# Altium footprint library Adams Altium Library.PcbLib: 102 footprints (part 3 of 7)
Each footprint in its own frame and in the unit in brackets; x right, y up, seen from the top. Pads: shape width x height; smd on the part's side, far side on the other; paste and mask are expansions set on the pad; w line width, h text height; cw(c..) or ccw(c..) is an arc to the next point about the centre after c.
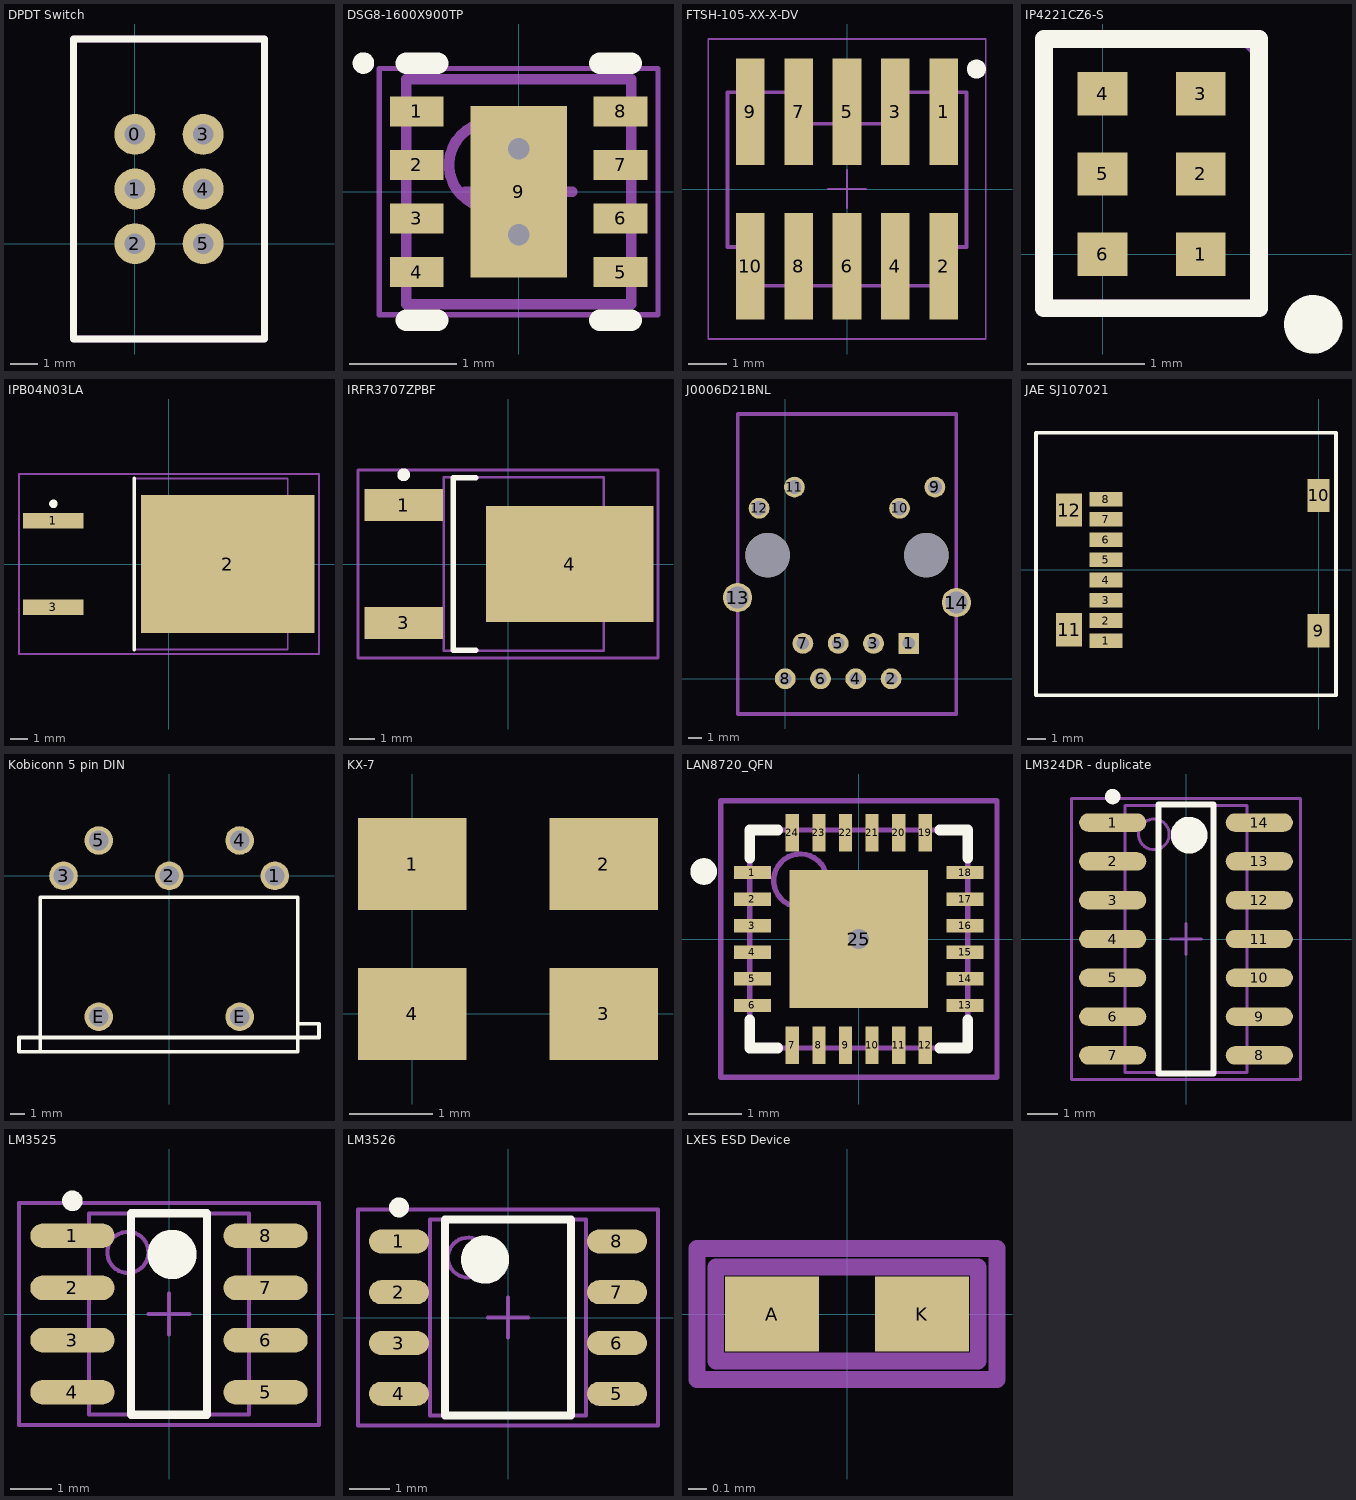
[diagram p2: the footprints below, top view; thin cyan lines are the x and y axes]

## DPDT Switch [mm] "MMS22R"
pads (6):
  round 1.5 hole 0.75: 0(0,4) 1(0,2) 2(0,0) 3(2.5,4) 4(2.5,2) 5(2.5,0)
Top Overlay:
  lines w0.254: -2.25,-3.5 -2.25,2 -2.25,7.5 4.75,7.5 4.75,7.163 4.75,1.944 4.75,-3.5 -2.25,-3.5
Mechanical 13:
  lines w0.254: -2.25,-3.5 4.75,-3.5 4.75,1.944 4.75,7.163 4.75,7.5 -2.25,7.5 -2.25,2 -2.25,-3.5

## DSG8-1600X900TP [mm] "SON, 8-Leads, Body 2x2mm, Pitch 0.5mm, Thermal Pad 1.6x0.9mm, TI Recommended"
height 0.8
pads (9):
  rect 0.5x0.28 smd paste-0.14 mask+0.07: 1(-0.95,0.75) 2(-0.95,0.25) 3(-0.95,-0.25) 4(-0.95,-0.75) 5(0.95,-0.75) 6(0.95,-0.25) 7(0.95,0.25) 8(0.95,0.75)
  rect 0.9x1.6 smd paste-0.45 mask+0.07: 9(0,0)
via 0,-0.4 diameter 0.5 hole 0.2
via 0,0.4 diameter 0.5 hole 0.2
Top Overlay:
  circle w0.1: c-1.45,1.2 r0.05
  lines w0.2: -1.05,-1.2 -0.755,-1.2 ; -1.05,1.2 -0.755,1.2 ; 0.755,-1.2 1.05,-1.2 ; 0.755,1.2 1.05,1.2
Top Paste:
  rectangle: 0.7,0.625 1.2,0.875
  rectangle: 0.7,0.125 1.2,0.375
  rectangle: 0.7,-0.375 1.2,-0.125
  rectangle: 0.7,-0.875 1.2,-0.625
  rectangle: -1.2,-0.875 -0.7,-0.625
  rectangle: -1.2,-0.375 -0.7,-0.125
  rectangle: -1.2,0.625 -0.7,0.875
  rectangle: -0.35,-0.65 0.35,0.65
  rectangle: -1.2,0.125 -0.7,0.375
Mechanical 13:
  circle w0.1: c-0.25,0.25 r0.4
  lines w0.1: -1.05,-1.05 -1.05,1.05 1.05,1.05 1.05,-1.05 -1.05,-1.05
Mechanical 15:
  lines w0.05: -1.3,-1.15 -1.3,1.15 1.3,1.15 1.3,-1.15 -1.3,-1.15
  lines w0.1: -0.5,0 0.5,0 ; 0,-0.5 0,0.5
3D body: height 0.8, standoff 0, extent -1.05,-1.05 1.05,1.05

## FTSH-105-XX-X-DV [mm] "1.27mm pitch, 10 pin, terminal strip; vertical, SMT"
height 5.97
pads (10):
  rect 0.75x2.8 smd mask+0: 1(2.54,2.03) 2(2.54,-2.03) 3(1.27,2.03) 4(1.27,-2.03) 5(0,2.03) 6(0,-2.03) 7(-1.27,2.03) 8(-1.27,-2.03) 9(-2.54,2.03) 10(-2.54,-2.03)
Top Overlay:
  circle w0.25: c3.4,3.15 r0.125
Mechanical 12:
  lines w0.001: -3.137,-1.524 -3.137,2.54 -1.079,2.54 -1.079,1.714 1.079,1.714 1.079,2.54 3.137,2.54 3.137,-1.524 2.54,-1.524 2.54,-2.54 -2.54,-2.54 -2.54,-1.524 -3.137,-1.524
Mechanical 13:
  lines w0.1: -3.137,-1.524 -3.137,2.54 -1.079,2.54 -1.079,1.714 1.079,1.714 1.079,2.54 3.137,2.54 3.137,-1.524 2.54,-1.524 2.54,-2.54 -2.54,-2.54 -2.54,-1.524 -3.137,-1.524
Mechanical 15:
  lines w0.05: -0.5,0 0.5,0 ; 0,-0.5 0,0.5 ; -3.645,-3.937 3.645,-3.937 3.645,3.937 -3.645,3.937 -3.645,-3.937

## IP4221CZ6-S [mm] "ESD Protection IC"
height 0.5
pads (6):
  rect 0.425x0.37 smd: 1(0.837,0) 2(0.837,0.685) 3(0.837,1.37) 4(0,1.37) 5(0,0.685) 6(0,0)
Top Overlay:
  circle w0.25: c1.8,-0.6 r0.125
  lines w0.152: -0.5,-0.463 -0.5,1.837 1.337,1.837 1.337,-0.463 -0.5,-0.463
Mechanical 13:
  lines w0.152: 1.249,1.837 1.337,1.75 ; -0.5,-0.463 1.337,-0.463 1.337,1.837 -0.5,1.837 -0.5,-0.463

## IPB04N03LA [mm] "Power-Transistor"
height 2.56
pads (3):
  rect 3.55x0.9 smd: 1(-6.8,2.54) 3(-6.8,-2.54)
  rect 10.2x8.1 smd: 2(3.45,0)
Top Overlay:
  circle w0.25: c-6.8,3.54 r0.125
  lines w0.2: -2.05,-5.05 -2.05,5.05
Mechanical 13:
  lines w0.1: -2,-5.025 -2,5.025 6.98,5.025 6.98,-5.025 -2,-5.025
Mechanical 15:
  lines w0.1: -0.5,0 0.5,0 ; 0,-0.5 0,0.5 ; -8.825,-5.3 -8.825,5.3 8.825,5.3 8.825,-5.3 -8.825,-5.3
3D body: height 2.56, standoff 0.47, extent -2,-5.025 6.98,5.025

## IRFR3707ZPBF [mm] "Power FET"
height 2.39
pads (3):
  rect 3.05x1.25 smd: 1(-4.05,2.29) 3(-4.05,-2.29)
  rect 6.5x4.5 smd: 4(2.4,0)
Top Overlay:
  circle w0.25: c-4.05,3.465 r0.125
  lines w0.2: -1.25,-3.35 -2.125,-3.35 -2.125,3.35 -1.25,3.35
Mechanical 13:
  lines w0.1: -2.5,-3.375 -2.5,3.375 3.72,3.375 3.72,-3.375 -2.5,-3.375
Mechanical 15:
  lines w0.1: -0.5,0 0.5,0 ; 0,-0.5 0,0.5 ; -5.825,-3.65 -5.825,3.65 5.825,3.65 5.825,-3.65 -5.825,-3.65
3D body: height 2.39, standoff 0.05, extent -2.5,-3.375 3.72,3.375

## J0006D21BNL [mm] "RJ45 Integrated Magnetics and LEDs"
pads (16):
  rect 1.5x1.5 hole 0.89: 1(8.89,2.54)
  round 1.5 hole 0.89: 2(7.62,0) 3(6.35,2.54) 4(5.08,0) 5(3.81,2.54) 6(2.54,0) 7(1.27,2.54) 8(0,0)
  round 1.5 hole 1.02: 9(10.77,13.79) 10(8.23,12.27) 11(0.66,13.79) 12(-1.88,12.27)
  round 2.11 hole 1.6: 13(-3.43,5.84) 14(12.32,5.48)
  round 3.2 hole 3.2: ""(-1.27,8.89) ""(10.16,8.89)
Mechanical 1:
  lines w0.254: -3.43,-2.54 -3.43,19.05 12.32,19.05 12.32,-2.54 -3.43,-2.54

## JAE SJ107021 [mm] "MicroSD card socket"
height 1.9
pads (12):
  rect 1.8x0.8 smd: 1(-11.55,-3.85) 2(-11.55,-2.75) 3(-11.55,-1.65) 4(-11.55,-0.55) 5(-11.55,0.55) 6(-11.55,1.65) 7(-11.55,2.75) 8(-11.55,3.85)
  rect 1.2x1.8 smd: 9(0,-3.3) 10(0,4.05)
  rect 1.4x1.8 smd: 11(-13.55,-3.25) 12(-13.55,3.25)
Top Overlay:
  lines w0.2: -15.35,-6.8 0.95,-6.8 0.95,7.45 -15.35,7.45 -15.35,-6.8
3D body: height 2, standoff 0, extent -15.25,-6.75 1,7.5

## Kobiconn 5 pin DIN [mil]
pads (7):
  round 80 hole 55: 1(295.5,0) 2(0,0) 3(-295.5,0) 4(197,99) 5(-197,99) E(-197,-394) E(197,-394)
Top Overlay:
  lines w10: 359,-452 419,-452 419,-413 360,-413 360,-452 -420,-452 -420,-492 -360,-492 ; -360,-492 -360,-60 360,-60 360,-492 -360,-492

## KX-7 [mm] "Crystal Oscillator"
pads (4):
  rect 1.3x1.1 smd: 1(0,1.8) 2(2.3,1.8) 3(2.3,0) 4(0,0)

## LAN8720_QFN [mm] "QFN, 24-Leads, Body 4.1x4.1mm (max), Pitch 0.50mm, IPC Medium Density"
height 1
pads (25):
  rect 0.7x0.25 smd: 1(-2,1.25) 2(-2,0.75) 3(-2,0.25) 4(-2,-0.25) 5(-2,-0.75) 6(-2,-1.25) 13(2,-1.25) 14(2,-0.75) 15(2,-0.25) 16(2,0.25) 17(2,0.75) 18(2,1.25)
  rect 0.25x0.7 smd: 7(-1.25,-2) 8(-0.75,-2) 9(-0.25,-2) 10(0.25,-2) 11(0.75,-2) 12(1.25,-2) 19(1.25,2) 20(0.75,2) 21(0.25,2) 22(-0.25,2) 23(-0.75,2) 24(-1.25,2)
  rect 2.6x2.6 smd: 25(0,0)
via 0,0 diameter 0.635 hole 0.381
Top Overlay:
  circle w0.25: c-2.919,1.27 r0.125
  lines w0.2: -2.05,-1.525 -2.05,-2.05 -1.525,-2.05 ; -2.05,1.525 -2.05,2.05 -1.525,2.05 ; 1.525,-2.05 2.05,-2.05 2.05,-1.525 ; 1.525,2.05 2.05,2.05 2.05,1.525
Mechanical 13:
  circle w0.1: c-1.1,1.1 r0.5
  lines w0.1: -2.05,-2.05 -2.05,2.05 2.05,2.05 2.05,-2.05 -2.05,-2.05
Mechanical 15:
  lines w0.1: -0.5,0 0.5,0 ; 0,-0.5 0,0.5 ; -2.6,-2.6 -2.6,2.6 2.6,2.6 2.6,-2.6 -2.6,-2.6
3D body: height 1, standoff 0, extent -2.05,-2.05 2.05,2.05

## LM324DR [mm] "LM324DR OpAmp"

## LM324DR - duplicate [mm] "LM324DR OPAMP"
height 1.75
pads (14):
  oval 2.2x0.6 smd: 1(-2.4,3.81) 2(-2.4,2.54) 3(-2.4,1.27) 4(-2.4,0) 5(-2.4,-1.27) 6(-2.4,-2.54) 7(-2.4,-3.81) 8(2.4,-3.81) 9(2.4,-2.54) 10(2.4,-1.27) 11(2.4,0) 12(2.4,1.27) 13(2.4,2.54) 14(2.4,3.81)
Top Overlay:
  circle w0.6: c0.1,3.4 r0.3
  circle w0.25: c-2.4,4.66 r0.125
  lines w0.2: -0.9,-4.4 0.9,-4.4 0.9,4.4 -0.9,4.4 -0.9,-4.4
Mechanical 13:
  circle w0.1: c-1.05,3.425 r0.5
  lines w0.1: -2,-4.375 2,-4.375 2,4.375 -2,4.375 -2,-4.375
Mechanical 15:
  lines w0.1: -0.5,0 0.5,0 ; 0,-0.5 0,0.5 ; -3.75,-4.6 3.75,-4.6 3.75,4.6 -3.75,4.6 -3.75,-4.6
3D body: height 1.75, standoff 0.25, extent -2,-4.375 2,4.375

## LM3525 [mm]
height 1.45
pads (8):
  oval 2.05x0.6 smd: 1(-2.35,1.905) 2(-2.35,0.635) 3(-2.35,-0.635) 4(-2.35,-1.905) 5(2.35,-1.905) 6(2.35,-0.635) 7(2.35,0.635) 8(2.35,1.905)
Top Overlay:
  circle w0.25: c-2.35,2.755 r0.125
  circle w0.6: c0.075,1.45 r0.3
  lines w0.2: -0.925,-2.45 -0.925,2.45 0.925,2.45 0.925,-2.45 -0.925,-2.45
Mechanical 13:
  circle w0.1: c-1,1.5 r0.5
  lines w0.1: -1.95,-2.45 -1.95,2.45 1.95,2.45 1.95,-2.45 -1.95,-2.45
Mechanical 15:
  lines w0.1: -0.5,0 0.5,0 ; 0,-0.5 0,0.5 ; -3.65,-2.7 -3.65,2.7 3.65,2.7 3.65,-2.7 -3.65,-2.7
3D body: height 1.45, standoff 0.25, extent -1.95,-2.45 1.95,2.45

## LM3526 [mm] "TSOP, 8-Leads, Body 4.9x3.9mm (max), Pitch 1.27mm, IPC Medium Density"
height 1.45
pads (8):
  oval 1.5x0.6 smd: 1(-2.725,1.905) 2(-2.725,0.635) 3(-2.725,-0.635) 4(-2.725,-1.905) 5(2.725,-1.905) 6(2.725,-0.635) 7(2.725,0.635) 8(2.725,1.905)
Top Overlay:
  circle w0.6: c-0.575,1.45 r0.3
  circle w0.25: c-2.725,2.755 r0.125
  lines w0.2: -1.575,-2.45 1.575,-2.45 1.575,2.45 -1.575,2.45 -1.575,-2.45
Mechanical 13:
  circle w0.1: c-1,1.5 r0.5
  lines w0.1: -1.95,-2.45 1.95,-2.45 1.95,2.45 -1.95,2.45 -1.95,-2.45
Mechanical 15:
  lines w0.1: -0.5,0 0.5,0 ; 0,-0.5 0,0.5 ; -3.75,-2.7 3.75,-2.7 3.75,2.7 -3.75,2.7 -3.75,-2.7
3D body: height 1.45, standoff 0.1, extent -1.95,-2.45 1.95,2.45

## LXES ESD Device [mm]
pads (2):
  rect 0.5x0.4 smd: A(-0.4,0) K(0.4,0)
Mechanical 13:
  lines w0.09: -0.7,-0.25 0.7,-0.25 0.7,0.25 -0.7,0.25 -0.7,-0.25
Mechanical 15:
  lines w0.09: -0.8,-0.35 -0.8,0 -0.8,0.35 0.8,0.35 0.8,-0.35 -0.8,-0.35